# EAGLE library part MCP4725 (library tcspc_lib)
12-Bit Digital-to-Analog Converter with EEPROM Memory in SOT-23-6 http://ww1.microchip.com/downloads/en/DeviceDoc/22039d.pdf
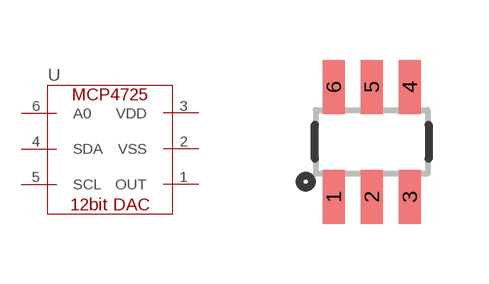
[diagram p1: symbol with the pads of SOT23-6; footprint SOT23-6]

Designator prefix U

## MCP4725  [SOT23-6]
1  OUT
2  VSS
3  VDD
4  SDA
5  SCL
6  A0

## Footprint SOT23-6 (pad centres in mm)
smd 0.55 x 1.35: 1 -0.95,-1.375; 2 0,-1.375; 3 0.95,-1.375; 4 0.95,1.375; 5 0,1.375; 6 -0.95,1.375